# Altium schematic symbol library 691364300002.SchLib: 1 symbol
Pins are listed as number, name and electrical type; pins without a type are passive.

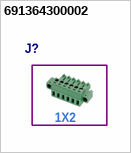
[diagram p0: symbol 691364300002]

## 691364300002
designator J?  (value not drawn)
691364300002
text: 1X2